# Altium footprint library Pines.PcbLib: 4 footprints
Each footprint in its own frame and in the unit in brackets; x right, y up, seen from the top. Pads: shape width x height; smd on the part's side, far side on the other; paste and mask are expansions set on the pad; w line width, h text height; cw(c..) or ccw(c..) is an arc to the next point about the centre after c.
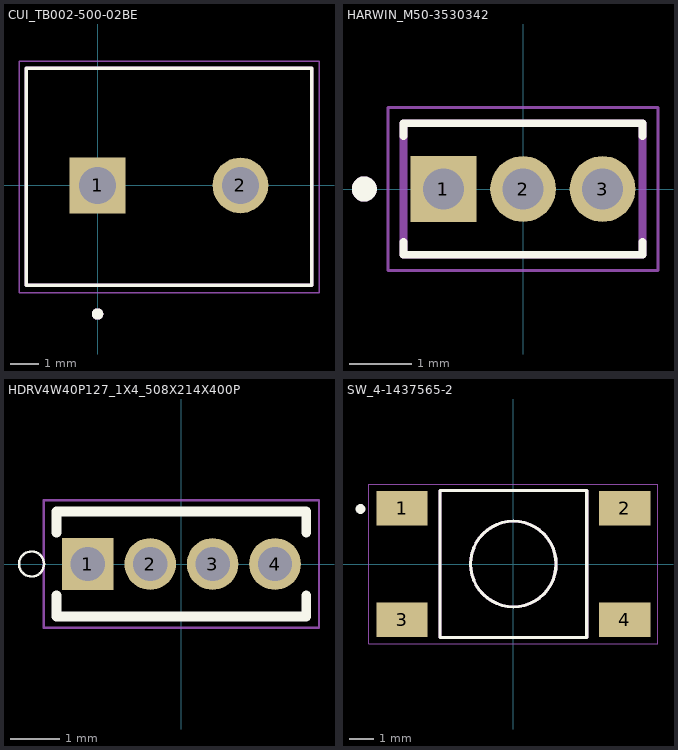
[diagram p0: the footprints below, top view; thin cyan lines are the x and y axes]

## CUI_TB002-500-02BE [mm]
pads (2):
  rect 1.95x1.95 / inner round 1.95 / far side rect 1.95x1.95 hole 1.3: 1(0,0)
  round 1.95 hole 1.3: 2(5,0)
Top Overlay:
  circle w0.2: c0,-4.5 r0.1
  lines w0.127: -2.5,-3.5 7.5,-3.5 7.5,4.1 -2.5,4.1 -2.5,-3.5
Mechanical 13:
  circle w0.2: c0,-4.5 r0.1
  lines w0.127: -2.5,-3.5 7.5,-3.5 7.5,4.1 -2.5,4.1 -2.5,-3.5
Mechanical 15:
  lines w0.05: -2.75,-3.75 -2.75,4.35 7.75,4.35 7.75,-3.75 -2.75,-3.75
3D body "step_temp.STEP": height 10, standoff -4.35, extent -2.525,-4.075 7.975,3.525

## HARWIN_M50-3530342 [mm]
pads (3):
  rect 1.05x1.05 / inner round 1.05 / far side rect 1.05x1.05 hole 0.65: 1(-1.27,0)
  round 1.05 hole 0.65: 2(0,0) 3(1.27,0)
Top Overlay:
  circle w0.2: c-2.535,0 r0.1
  lines w0.127: -1.905,-0.845 -1.905,-1.05 1.905,-1.05 1.905,-0.845 ; -1.905,0.845 -1.905,1.05 1.905,1.05 1.905,0.845
Mechanical 13:
  circle w0.2: c-2.535,0 r0.1
  lines w0.127: -1.905,-1.05 -1.905,1.05 1.905,1.05 1.905,-1.05 -1.905,-1.05
Mechanical 15:
  lines w0.05: -2.155,-1.3 -2.155,1.3 2.155,1.3 2.155,-1.3 -2.155,-1.3
3D body "step_temp.STEP": height 4.2, standoff -2.5, extent -1.905,-1.05 1.905,1.05

## HDRV4W40P127_1X4_508X214X400P [mm]
pads (4):
  rect 1.05x1.05 / inner round 1.05 / far side rect 1.05x1.05 hole 0.7: 1(-1.905,0)
  round 1.05 hole 0.7: 2(-0.635,0) 3(0.635,0) 4(1.905,0)
Top Overlay:
  circle w0.05: c-3.05,0 r0.255
  lines w0.2: -2.54,-0.635 -2.54,-1.07 2.54,-1.07 2.54,-0.635 ; -2.54,0.635 -2.54,1.07 2.54,1.07 2.54,0.635
Mechanical 15:
  lines w0.05: -2.8,-1.3 2.8,-1.3 2.8,1.3 -2.8,1.3 -2.8,-1.3
3D body "step_temp.STEP": height 3.99, standoff -2.31, extent -2.54,-1.067 2.54,1.067

## SW_4-1437565-2 [mm]
pads (4):
  rect 2.1x1.4 smd: 1(-4.55,2.275) 2(4.55,2.275) 3(-4.55,-2.275) 4(4.55,-2.275)
Top Overlay:
  circle w0.127: c0,0 r1.75
  circle w0.2: c-6.25,2.25 r0.1
  lines w0.127: -3,-2.997 -3,2.997 3.002,2.997 3.002,-3 -2.992,-3
Mechanical 13:
  circle w0.127: c0,0 r1.75
  lines w0.127: -3,-3 3,-3 3,3 -3,3 -3,-3
Mechanical 15:
  lines w0.05: -5.914,-3.25 5.914,-3.25 5.914,3.25 -5.914,3.25 -5.914,-3.25
3D body "step_temp.STEP": height 5.38, standoff 0, extent -5,-3 5,3